# EAGLE library part KEEL_PROBE1 (library probe)
In-circuit probe for the Keel module
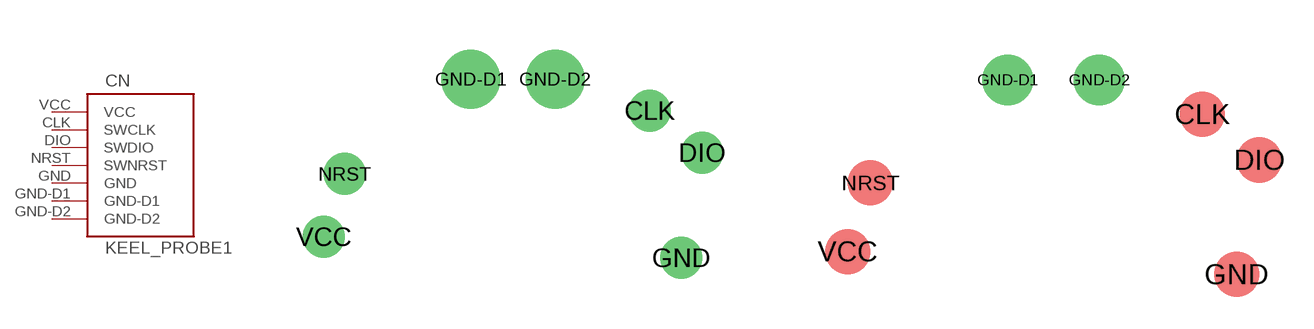
[diagram p0: symbol with the pads of KEEL_PROBE1; footprints KEEL_PROBE1, KEEL_PROBE-IC1]

Designator prefix CN

## KEEL_PROBE1PROBE  [KEEL_PROBE1]
CLK  SWCLK
DIO  SWDIO
GND  GND  pwr
GND-D1  GND-D1  pwr
GND-D2  GND-D2  pwr
NRST  SWNRST
VCC  VCC  pwr

## KEEL_PROBE1IC  [KEEL_PROBE-IC1]
Pads as for KEEL_PROBE1

## Footprint KEEL_PROBE1 (pad centres in mm)
drill 0.6 pad 1.27: CLK 4.128,4.128; DIO 5.715,2.857; GND 5.08,-0.318; NRST -5.08,2.223; VCC -5.715,0.318
drill 0.9 pad 1.778: GND-D1 -1.27,5.08; GND-D2 1.27,5.08

## Footprint KEEL_PROBE-IC1 (pad centres in mm)
smd 1.27 x 1.27: CLK 4.128,4.128; DIO 5.715,2.857; GND 5.08,-0.318; NRST -5.08,2.223; VCC -5.715,0.318
drill 0.9: GND-D1 -1.27,5.08; GND-D2 1.27,5.08